# EAGLE library part SN74LVC2T45 (library rgb_cube)
DUAL-BIT DUAL-SUPPLY BUS TRANSCEIVER WITH CONFIGURABLE VOLTAGE TRANSLATION AND 3-STATE OUTPUTS
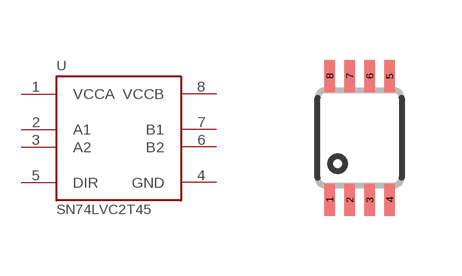
[diagram p5: symbol with the pads of TI-DCU; footprint TI-DCU]

Designator prefix U

## SN74LVC2T45DCUR  [TI-DCU]
1  VCCA  pas
2  A1
3  A2
4  GND  sup
5  DIR  in
6  B2
7  B1
8  VCCB  pas

## Footprint TI-DCU (pad centres in mm)
smd 0.27 x 0.8: 1 -0.75,-1.55; 2 -0.25,-1.55; 3 0.25,-1.55; 4 0.75,-1.55; 5 0.75,1.55; 6 0.25,1.55; 7 -0.25,1.55; 8 -0.75,1.55